# EAGLE library part MAXSTREAM_XBEE (library extension_board)
XBee (TM) /XBee-PRO(TM) OEM RF Modules Source: MaxStream, Inc. xbee_productmanual.pdf
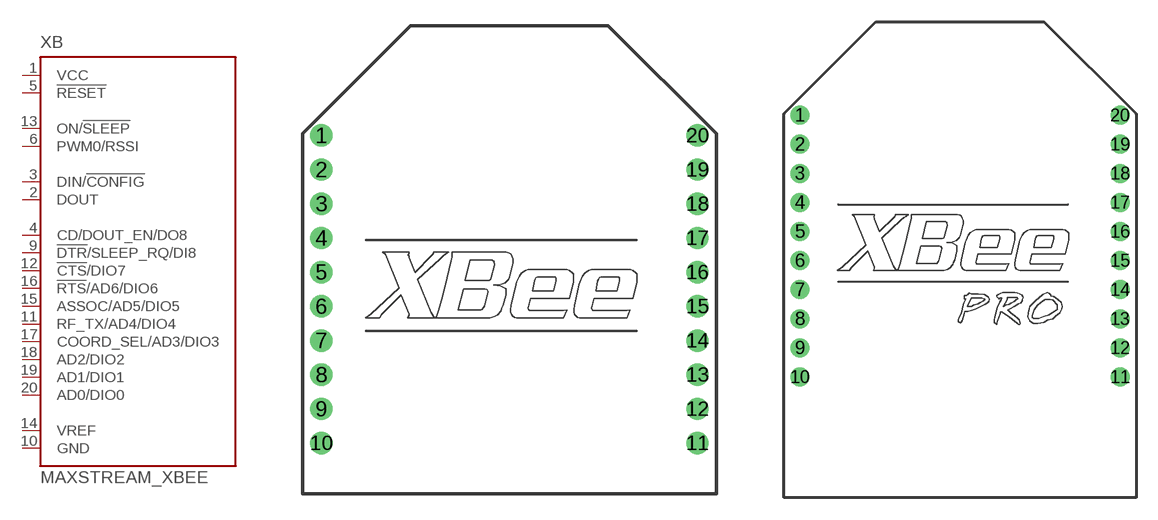
[diagram p2: symbol with the pads of MAXSTREAM_XBEE; footprints MAXSTREAM_XBEE, MAXSTREAM_XBEE-PRO]

Designator prefix XB

## MAXSTREAM_XBEE (MPN: XBP24-Z7UIT-004; OC_FARNELL: 1751799; OC_NEWARK: 34R5507)  [MAXSTREAM_XBEE]
1  VCC  pwr
2  DOUT  out
3  DIN/!CONFIG  in
4  CD/DOUT_EN/DO8  out
5  !RESET  in
6  PWM0/RSSI  out
9  !DTR!/SLEEP_RQ/DI8
10  GND  pwr
11  RF_TX/AD4/DIO4
12  !CTS!/DIO7
13  ON/!SLEEP  out
14  VREF  in
15  ASSOC/AD5/DIO5
16  !RTS!/AD6/DIO6
17  COORD_SEL/AD3/DIO3
18  AD2/DIO2
19  AD1/DIO1
20  AD0/DIO0

## MAXSTREAM_XBEE-PRO (MPN: XBP24-AWI-001; OC_FARNELL: 1337916; OC_NEWARK: 42M2667)  [MAXSTREAM_XBEE-PRO]
Pads as for MAXSTREAM_XBEE

## Footprint MAXSTREAM_XBEE (pad centres in mm)
XBEE Source: http://www.maxstream.net/products/xbee/datasheet_XBee_OEM_RF-Modules.pdf
drill 0.8 pad 1.27: 1 -11,9; 2 -11,7; 3 -11,5; 4 -11,3; 5 -11,1; 6 -11,-1; 7 -11,-3; 8 -11,-5; 9 -11,-7; 10 -11,-9; 11 11,-9; 12 11,-7; 13 11,-5; 14 11,-3; 15 11,-1; 16 11,1; 17 11,3; 18 11,5; 19 11,7; 20 11,9

## Footprint MAXSTREAM_XBEE-PRO (pad centres in mm)
XBEE Pro Source: http://www.maxstream.net/products/xbee/datasheet_XBee_OEM_RF-Modules.pdf
drill 0.8 pad 1.27: 1 -11,9; 2 -11,7; 3 -11,5; 4 -11,3; 5 -11,1; 6 -11,-1; 7 -11,-3; 8 -11,-5; 9 -11,-7; 10 -11,-9; 11 11,-9; 12 11,-7; 13 11,-5; 14 11,-3; 15 11,-1; 16 11,1; 17 11,3; 18 11,5; 19 11,7; 20 11,9